# EAGLE library part WAVESHARE_3_2_SPI_LCD_B (library Unclear)
Waveshare 3.2" SPI LCD (B) http://www.waveshare.com/3.2inch-rpi-lcd-b.htm
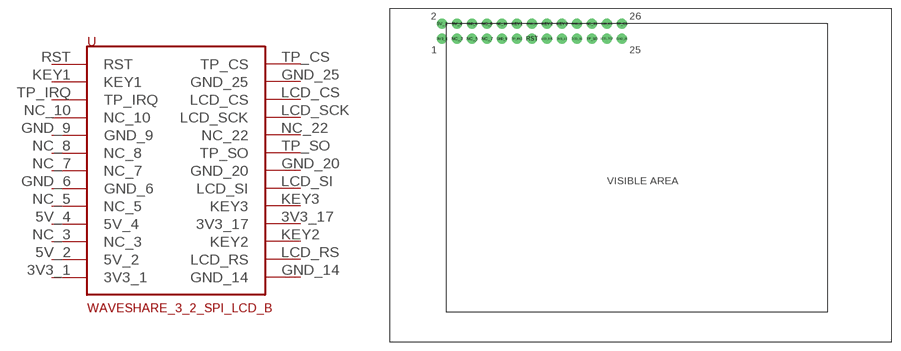
[diagram p1: symbol with the pads of WAVESHARE_3_2_SPI_LCD_B; footprint WAVESHARE_3_2_SPI_LCD_B]

Designator prefix -

## WAVESHARE_3_2_SPI_LCD_B (UNIT_PRICE: 18.99; VENDOR_ID: Amazon.co.uk; VENDOR_SKU: B00N0SNVQE)  [WAVESHARE_3_2_SPI_LCD_B]
3V3_1  3V3_1
3V3_17  3V3_17
5V_2  5V_2
5V_4  5V_4
GND_6  GND_6
GND_9  GND_9
GND_14  GND_14
GND_20  GND_20
GND_25  GND_25
KEY1  KEY1
KEY2  KEY2
KEY3  KEY3
LCD_CS  LCD_CS
LCD_RS  LCD_RS
LCD_SCK  LCD_SCK
LCD_SI  LCD_SI
NC_3  NC_3
NC_5  NC_5
NC_7  NC_7
NC_8  NC_8
NC_10  NC_10
NC_22  NC_22
RST  RST
TP_CS  TP_CS
TP_IRQ  TP_IRQ
TP_SO  TP_SO

## Footprint WAVESHARE_3_2_SPI_LCD_B (pad centres in mm)
Waveshare 3.2" SPI LCD (B) http://www.waveshare.com/3.2inch-rpi-lcd-b.htm
drill 0.8 pad 1.676: 3V3_1 8.89,51.435; 3V3_17 29.21,51.435; 5V_2 8.89,53.975; 5V_4 11.43,53.975; GND_6 13.97,53.975; GND_9 19.05,51.435; GND_14 24.13,53.975; GND_20 31.75,53.975; GND_25 39.37,51.435; KEY1 21.59,53.975; KEY2 26.67,53.975; KEY3 29.21,53.975; LCD_CS 36.83,53.975; LCD_RS 26.67,51.435; LCD_SCK 36.83,51.435; LCD_SI 31.75,51.435; NC_3 11.43,51.435; NC_5 13.97,51.435; NC_7 16.51,51.435; NC_8 16.51,53.975; NC_10 19.05,53.975; NC_22 34.29,53.975; RST 24.13,51.435; TP_CS 39.37,53.975; TP_IRQ 21.59,51.435; TP_SO 34.29,51.435